# EAGLE library part JTA-CONN (library sam3s-lib)
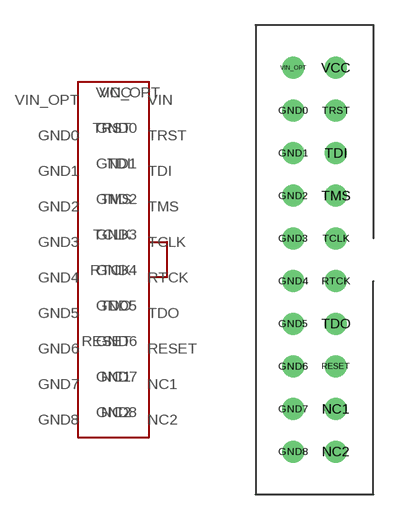
[diagram p0: symbol with the pads of JTAG-CONN; footprint JTAG-CONN]

Designator prefix -

## JTA-CONN  [JTAG-CONN]
GND0  GND0
GND1  GND1
GND2  GND2
GND3  GND3
GND4  GND4
GND5  GND5
GND6  GND6
GND7  GND7
GND8  GND8
NC1  NC1
NC2  NC2
RESET  RESET
RTCK  RTCK
TCLK  TCLK
TDI  TDI
TDO  TDO
TMS  TMS
TRST  TRST
VCC  VIN
VIN_OPT  VIN_OPT

## Footprint JTAG-CONN (pad centres in mm)
drill 0.8: GND0 -1.27,8.89; GND1 -1.27,6.35; GND2 -1.27,3.81; GND3 -1.27,1.27; GND4 -1.27,-1.27; GND5 -1.27,-3.81; GND6 -1.27,-6.35; GND7 -1.27,-8.89; GND8 -1.27,-11.43; NC1 1.27,-8.89; NC2 1.27,-11.43; RESET 1.27,-6.35; RTCK 1.27,-1.27; TCLK 1.27,1.27; TDI 1.27,6.35; TDO 1.27,-3.81; TMS 1.27,3.81; TRST 1.27,8.89; VCC 1.27,11.43; VIN_OPT -1.27,11.43